# Altium schematic symbol library CRCW04021M82FKED.SchLib: 1 symbol
Pins are listed as number, name and electrical type; pins without a type are passive.

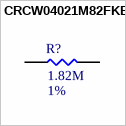
[diagram p0: symbol CRCW04021M82FKED]

## CRCW04021M82FKED
designator R?  Resistance: 1.82M  Tolerance: 1%  (hidden comment: CRCW04021M82FKED)
Thick Film Resistors - SMD 1/16watt 1.82Mohms 1% 100ppm; MFR: Vishay / Dale; Power Rating: 1/26W; PN: CRCW04021M82FKED; Footprint: RES0402; Package: 0402; ComponentLink1Description: Datasheet; ComponentLink1URL: https://www.mouser.com/datasheet/2/427/dcrcwe3-1762152.pdf; Supplier 1: Mouser; Supplier Part Number 1: 71-CRCW04021M82FKED
footprint RES0402 (Generic 0402 PCB Footprint)
pins: 1, 2